# EAGLE library part CONN_ICD2_2MM (library psas_eagle_library)
Minature surface mount connector for Microchip PIC ICD version 2
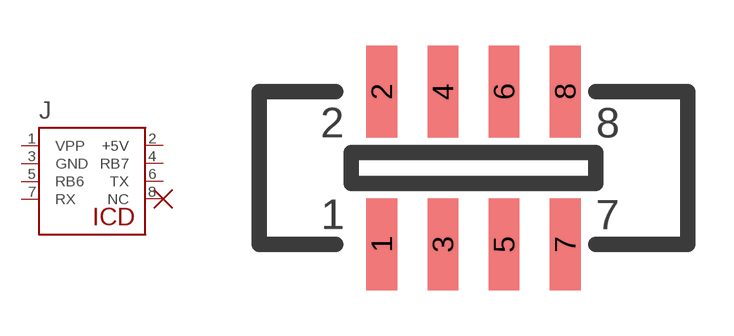
[diagram p6: symbol with the pads of 2MM-2X8-SMT; footprint 2MM-2X8-SMT]

Designator prefix J

## CONN_ICD2_2MM  [2MM-2X8-SMT]
1  VPP  out
2  +5V  pwr
3  GND  pwr
4  RB7
5  RB6
6  TX  out
7  RX  in
8  NC  nc

## Footprint 2MM-2X8-SMT (pad centres in mm)
smd 1 x 3: 1 -3,-2.5; 2 -3,2.5; 3 -1,-2.5; 4 -1,2.5; 5 1,-2.5; 6 1,2.5; 7 3,-2.5; 8 3,2.5